# Altium footprint library BUK98150-55A.PcbLib: 3 footprints
Each footprint in its own frame and in the unit in brackets; x right, y up, seen from the top. Pads: shape width x height; smd on the part's side, far side on the other; paste and mask are expansions set on the pad; w line width, h text height; cw(c..) or ccw(c..) is an arc to the next point about the centre after c.
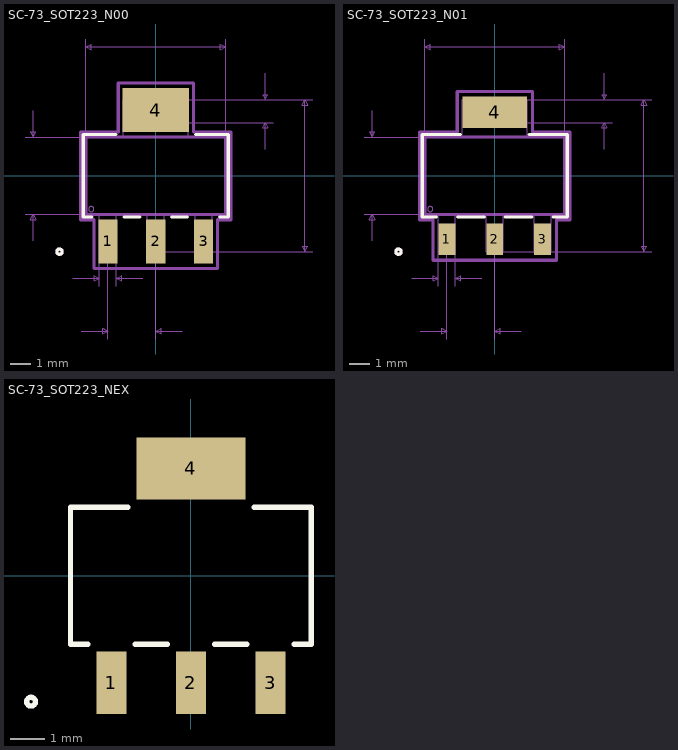
[diagram p0: the footprints below, top view; thin cyan lines are the x and y axes]

## SC-73_SOT223_N00 [mil]
pads (4):
  rect 36x83 all layers, no hole: 1(-90.55,-124) 2(0,-124) 3(90.55,-124)
  rect 126x83 all layers, no hole: 4(0,124)
Top Overlay:
  circle w6: c-182,-143.5 r5
  lines w6: -120.85,-78 -137,-78 -137,78 -75.3,78 ; -60.25,-78 -30.3,-78 ; 30.3,-78 60.25,-78 ; 75.3,78 137,78 137,-78 120.85,-78
Outline:
  circle w1: c-122,-63 r5
  lines w1: -132,-73 132,-73 132,73 -132,73 -132,-73 ; -106.55,-143.5 -106.55,-73 -74.55,-73 -74.55,-143.5 -106.55,-143.5 ; -61,73 61,73 61,143.5 -61,143.5 -61,73 ; -16,-143.5 -16,-73 16,-73 16,-143.5 -16,-143.5 ; 74.55,-143.5 74.55,-73 106.55,-73 106.55,-143.5 74.55,-143.5
Courtyard Bottom:
  circle w6: c-182,-143.5 r5
  lines w1: -247,-73 0,-73 ; -247,73 0,73 ; -232,-123 -232,-73 ; -232,123 -232,73 ; -156.55,-193.5 -106.55,-193.5 ; -140.55,-293.5 -90.55,-293.5 ; -132,73 -132,258.5 ; -106.55,-208.5 -106.55,-143.5 ; -90.55,-308.5 -90.55,-143.5 ; -74.55,-208.5 -74.55,-143.5 ; -24.55,-193.5 -74.55,-193.5 ; 0,-308.5 0,-143.5 297,-143.5 ; 0,100.5 222,100.5 ; 50,-293.5 0,-293.5 ; 132,73 132,258.5 ; 207,50.5 207,100.5 ; 207,193.5 207,143.5 ; 222,143.5 0,143.5 297,143.5 ; -232,-73 -237,-83 -227,-83 -232,-73 ; -232,73 -237,83 -227,83 -232,73 ; -132,243.5 132,243.5 ; -132,243.5 -122,248.5 -122,238.5 -132,243.5 ; -106.55,-193.5 -116.55,-188.5 -116.55,-198.5 -106.55,-193.5 ; -90.55,-293.5 -100.55,-288.5 -100.55,-298.5 -90.55,-293.5 ; -74.55,-193.5 -64.55,-188.5 -64.55,-198.5 -74.55,-193.5 ; 0,-293.5 10,-288.5 10,-298.5 0,-293.5 ; 132,243.5 122,248.5 122,238.5 132,243.5 ; 207,100.5 202,90.5 212,90.5 207,100.5 ; 207,143.5 202,153.5 212,153.5 207,143.5 ; 282,-143.5 282,143.5 ; 282,-143.5 277,-133.5 287,-133.5 282,-143.5 ; 282,143.5 277,133.5 287,133.5 282,143.5
  lines w6: -142,-83 -142,83 -71,83 -71,175.5 71,175.5 71,83 142,83 142,-83 116.55,-83 116.55,-175.5 -116.55,-175.5 -116.55,-83 -142,-83 ; -132,-73 132,-73 132,73 -132,73 -132,-73
  text "Default Pin Padstyle: RX36Y83D0T" at 0,-415.5 h31.25
  text "Alt 1 Padstyle: OX60Y90D30P" at 0,-465.5 h31.25
  text "Alt 2 Padstyle: OX90Y60D30P" at 0,-515.5 h31.25
  text "0.287in/7.29mm" at 302,0 h15.62
  text "0.043in/1.092mm" at 227,122 h15.62
  text "0.091in/2.3mm" at -45.28,-313.5 h15.62
  text "0.032in/0.813mm" at -90.55,-213.5 h15.62
  text "0.264in/6.706mm" at 0,263.5 h15.62
  text "0.146in/3.708mm" at -252,0 h15.62

## SC-73_SOT223_N01 [mil]
pads (4):
  rect 32x59 all layers, no hole: 1(-90.55,-120) 2(0,-120) 3(90.55,-120)
  rect 122x59 all layers, no hole: 4(0,120)
Top Overlay:
  circle w6: c-182,-143.5 r5
  lines w6: -110.47,-78 -137,-78 -137,78 -64.92,78 ; -70.63,-78 -19.92,-78 ; 19.92,-78 70.63,-78 ; 64.92,78 137,78 137,-78 110.47,-78
Outline:
  circle w1: c-122,-63 r5
  lines w1: -132,-73 -132,73 132,73 132,-73 -132,-73 ; -106.55,-143.5 -74.55,-143.5 -74.55,-73 -106.55,-73 -106.55,-143.5 ; -61,73 -61,143.5 61,143.5 61,73 -61,73 ; -16,-143.5 16,-143.5 16,-73 -16,-73 -16,-143.5 ; 74.55,-143.5 106.55,-143.5 106.55,-73 74.55,-73 74.55,-143.5
Courtyard Bottom:
  circle w6: c-182,-143.5 r5
  lines w1: -247,-73 0,-73 ; -247,73 0,73 ; -232,-123 -232,-73 ; -232,123 -232,73 ; -156.55,-193.5 -106.55,-193.5 ; -140.55,-293.5 -90.55,-293.5 ; -132,73 -132,258.5 ; -106.55,-208.5 -106.55,-143.5 ; -90.55,-308.5 -90.55,-143.5 ; -74.55,-208.5 -74.55,-143.5 ; -24.55,-193.5 -74.55,-193.5 ; 0,-308.5 0,-143.5 297,-143.5 ; 0,100.5 222,100.5 ; 50,-293.5 0,-293.5 ; 132,73 132,258.5 ; 207,50.5 207,100.5 ; 207,193.5 207,143.5 ; 222,143.5 0,143.5 297,143.5 ; -232,-73 -227,-83 -237,-83 -232,-73 ; -232,73 -227,83 -237,83 -232,73 ; -132,243.5 -122,238.5 -122,248.5 -132,243.5 ; -132,243.5 132,243.5 ; -106.55,-193.5 -116.55,-198.5 -116.55,-188.5 -106.55,-193.5 ; -90.55,-293.5 -100.55,-298.5 -100.55,-288.5 -90.55,-293.5 ; -74.55,-193.5 -64.55,-198.5 -64.55,-188.5 -74.55,-193.5 ; 0,-293.5 10,-298.5 10,-288.5 0,-293.5 ; 132,243.5 122,238.5 122,248.5 132,243.5 ; 207,100.5 212,90.5 202,90.5 207,100.5 ; 207,143.5 212,153.5 202,153.5 207,143.5 ; 282,-143.5 287,-133.5 277,-133.5 282,-143.5 ; 282,-143.5 282,143.5 ; 282,143.5 287,133.5 277,133.5 282,143.5
  lines w6: -142,-83 -116.55,-83 -116.55,-159.5 116.55,-159.5 116.55,-83 142,-83 142,83 71,83 71,159.5 -71,159.5 -71,83 -142,83 -142,-83 ; -132,-73 -132,73 132,73 132,-73 -132,-73
  text "0.146in/3.708mm" at -252,0 h15.62
  text "0.264in/6.706mm" at 0,263.5 h15.62
  text "0.032in/0.813mm" at -90.55,-213.5 h15.62
  text "0.091in/2.3mm" at -45.28,-313.5 h15.62
  text "0.043in/1.092mm" at 227,122 h15.62
  text "0.287in/7.29mm" at 302,0 h15.62
  text "Alt 2 Padstyle: OX90Y60D30P" at 0,-499.5 h31.25
  text "Alt 1 Padstyle: OX60Y90D30P" at 0,-449.5 h31.25
  text "Default Pin Padstyle: RX32Y59D0T" at 0,-399.5 h31.25

## SC-73_SOT223_NEX [mil]
pads (4):
  rect 34x71 all layers, no hole: 1(-90.55,-122) 2(0,-122) 3(90.55,-122)
  rect 124x71 all layers, no hole: 4(0,122)
Top Overlay:
  circle w6: c-182,-143.5 r5
  lines w6: -117.52,-78 -137,-78 -137,78 -71.97,78 ; -63.58,-78 -26.97,-78 ; 26.97,-78 63.58,-78 ; 71.97,78 137,78 137,-78 117.52,-78